# Altium schematic symbol library Diodes - Rectifiers - Single.SchLib: 2 symbols
Pins are listed as number, name and electrical type; pins without a type are passive.

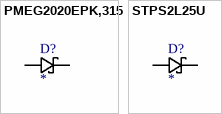
[diagram p0: symbols PMEG2020EPK,315 to STPS2L25U]

## PMEG2020EPK,315
designator D?
DIODE SCHOTTKY 20V 2A DFN1608D-2; Supplier 1: Digi-Key; Supplier 2: Farnell; Supplier 3: Mouser; Supplier Part Number 1: 1727-1338-1-ND; Supplier Part Number 2: 2191802; Supplier Part Number 3: 771-PMEG2020EPK,315
footprint NEXPERIA_DFN1608D-2
pins: A, C

## STPS2L25U
designator D?
DIODE SCHOTTKY 25V 2A SMB; Supplier 1: Digi-Key; Supplier 2: Farnell; Supplier 3: Mouser; Supplier Part Number 1: 497-5573-1-ND; Supplier Part Number 2: 1752177; Supplier Part Number 3: 511-STPS2L25U
footprint STM_SMB
pins: A, C